# Altium schematic symbol library Wuerth.SchLib: 6 symbols
Pins are listed as number, name and electrical type; pins without a type are passive.

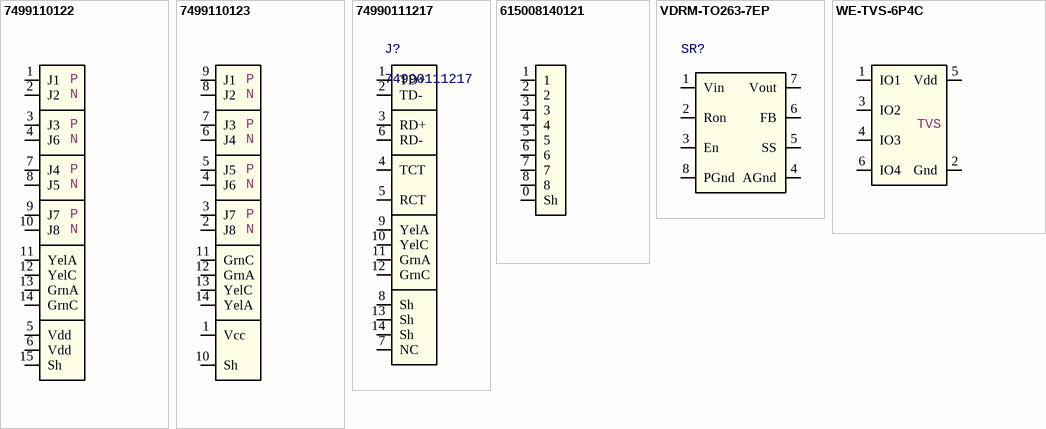
[diagram p0: symbols 7499110122 to WE-TVS-6P4C]

## 7499110122
designator J?
10/100/1000 BaseT Transformer; Manufacturer 1: WE; Value: *; Manufacturer Part Number 1: 7499110122
footprint 7499110122 (10/100/1000 BaseT Transformer)
pins: 1 J1, 2 J2, 3 J3, 4 J6, 5 Vdd, 6 Vdd, 7 J4, 8 J5, 9 J7, 10 J8, 11 YelA, 12 YelC, 13 GrnA, 14 GrnC, 15 Sh
text: P; N

## 7499110123
designator J?
10/100/1000 BaseT Transformer; Manufacturer 1: WE; Value: *; Manufacturer Part Number 1: 7499110123
footprint 7499110123 (10/100/1000 BaseT Transformer, Vertical)
pins: 1 Vcc, 2 J8, 3 J7, 4 J6, 5 J5, 6 J4, 7 J3, 8 J2, 9 J1, 10 Sh, 11 GrnC, 12 GrnA, 13 YelC, 14 YelA
text: P; N

## 74990111217
designator J?
10/100 BaseT Transformer; Manufacturer 1: WE; CompionentLink1Description: *; ComponentLink1URL: *; PackageDescription: *; Manufacturer Part Number 1: 74990111217; LayTec Nummer: *; PackageReferenz: *; PackageVersion: *; CompionentLink2Description: *; ComponentLink2URL: *; Value: *; Supplier 1: Farnell; Supplier Part Number 1: 2356118
footprint 74990111217 (10/100 BaseT Transformer, Right Angle)
pins: 1 TD+, 2 TD-, 3 RD+, 4 TCT, 5 RCT, 6 RD-, 7 NC, 8 Sh, 9 YelA, 10 YelC, 11 GrnA, 12 GrnC, 13 Sh, 14 Sh

## 615008140121
designator X?, comment 61500814221
RJ45 Jack w/o Transformer; Manufacturer 1: WE; Value: *; Manufacturer Part Number 1: 61500814221
footprint 615008140121 (Single RJ45 Jack w/o Transformer)
pins: 0 Sh, 1, 2, 3, 4, 5, 6, 7, 8

## VDRM-TO263-7EP
designator SR?
footprint TO263-7EP (TO case w/ thermal pad)
pins: 1 Vin (power), 2 Ron, 3 En, 4 AGnd, 5 SS, 6 FB, 7 Vout, 8 PGnd

## WE-TVS-6P4C
designator D?
TVS Diode Array WE-TVS, 4 Channels, 6 Pins; Value: *
footprint SOT23-6N (SOT23, 6-Leads, Body 2,90x2,80mm, Pitch 0,95mm, IPC Medium Density)
pins: 1 IO1, 2 Gnd, 3 IO2, 4 IO3, 5 Vdd, 6 IO4
text: TVS